# EAGLE library part DS3234S (library futz)
Maxim DS3234S
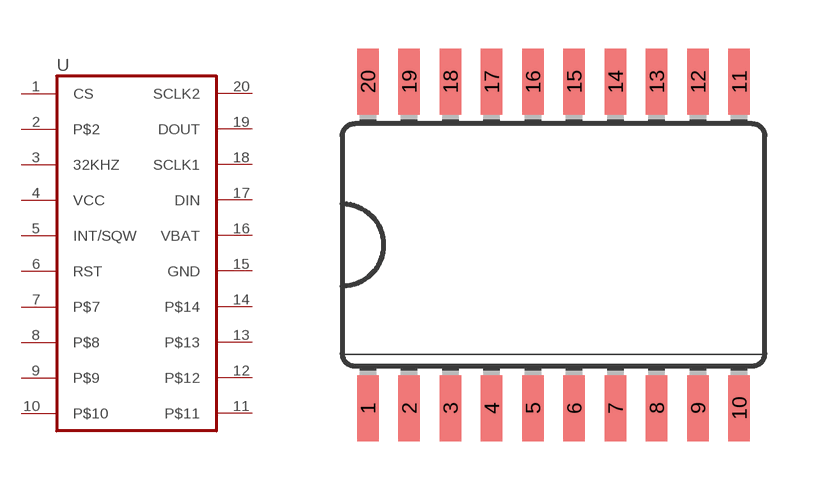
[diagram p8: symbol with the pads of SO20L; footprint SO20L]

Designator prefix -

## DS3234S  [SO20L]
1  CS
2  P$2  nc
3  32KHZ
4  VCC  pwr
5  INT/SQW
6  RST
7  P$7  nc
8  P$8  nc
9  P$9  nc
10  P$10  nc
11  P$11  nc
12  P$12  nc
13  P$13  nc
14  P$14  nc
15  GND  pwr
16  VBAT
17  DIN
18  SCLK1
19  DOUT
20  SCLK2

## Footprint SO20L (pad centres in mm)
smd 0.66 x 2.032: 1 -5.715,-5.029; 2 -4.445,-5.029; 3 -3.175,-5.029; 4 -1.905,-5.029; 5 -0.635,-5.029; 6 0.635,-5.029; 7 1.905,-5.029; 8 3.175,-5.029; 9 4.445,-5.029; 10 5.715,-5.029; 11 5.715,5.029; 12 4.445,5.029; 13 3.175,5.029; 14 1.905,5.029; 15 0.635,5.029; 16 -0.635,5.029; 17 -1.905,5.029; 18 -3.175,5.029; 19 -4.445,5.029; 20 -5.715,5.029